# Altium integrated library Cirrus Microcontroller 32-Bit ARM.IntLib: 28 symbols (part 3 of 3)
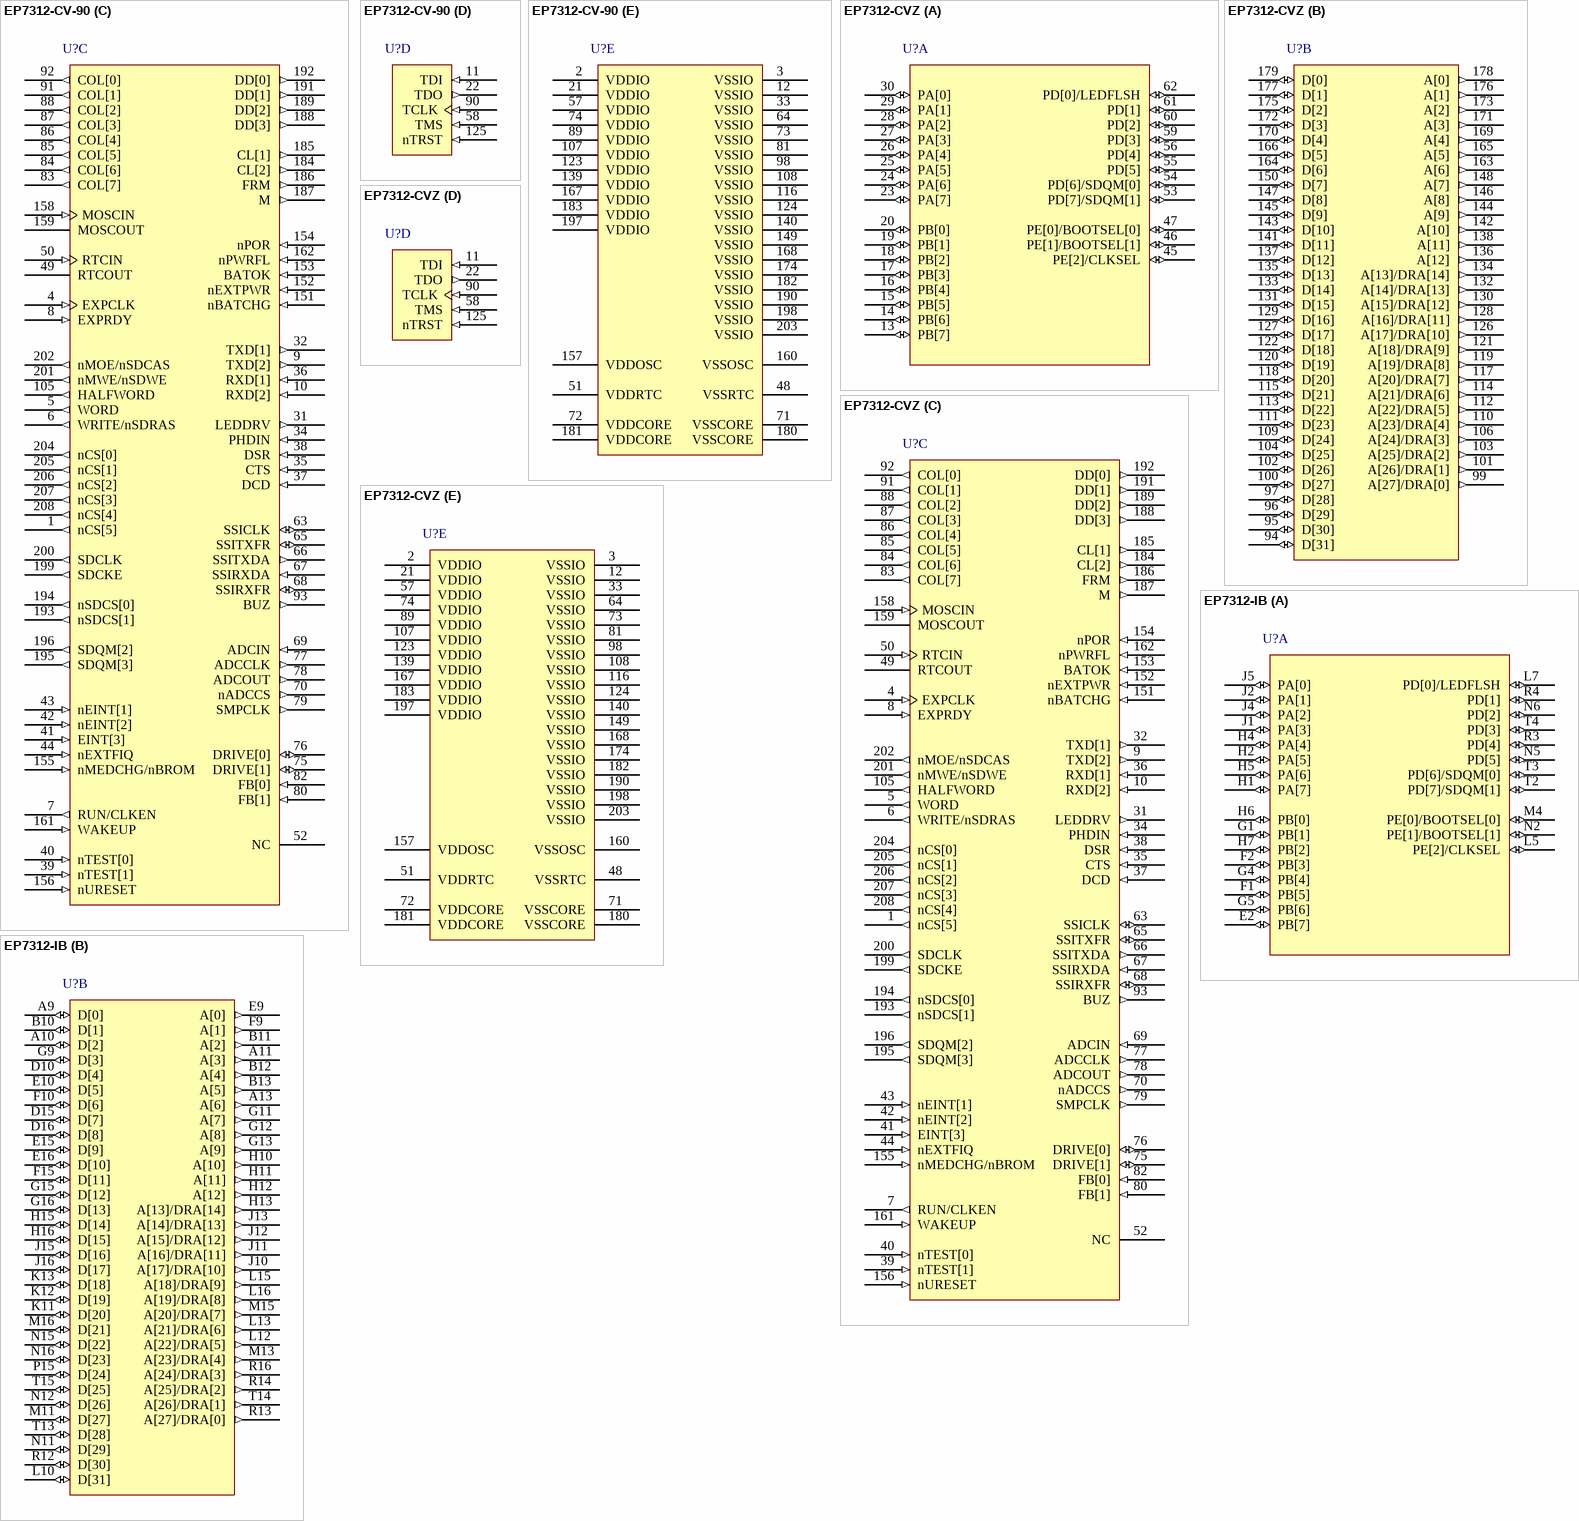
[diagram p16: symbols EP7312-CV-90 to EP7312-IB]

## EP7312-CV-90
designator U?
ARM7TDMI 32-Bit RISC CPU, 48KB SRAM, 8KB Cache, 208-pin LQFP, Commercial Grade (90 MHz); Published: 12-Dec-2006; DatasheetVersion: revF1, Aug-2005; PackageVersion: Aug-2005; PackageReference: LQFP208; Publisher: Altium Limited; PackageDescription: 208-Pin Thin Quad Flat Pack 0.5 mm Pitch; Code_JEDEC: MS-026-BJB; ComponentLink1Description: Manufacturer Link; ComponentLink1URL: http://www.cirrus.com/en/; ComponentLink2Description: Datasheet; ComponentLink2URL: http://www.cirrus.com/en/pubs/proDatasheet/EP7312_F1.pdf
footprint LQFP208_N (Thin QFP, 208-Leads, Body 28x28mm, Pitch 0.5mm, IPC Medium Density)
footprint LQFP208_L (Thin QFP, 208-Leads, Body 28x28mm, Pitch 0.5mm, IPC High Density)
footprint LQFP208_M (Thin QFP, 208-Leads, Body 28x28mm, Pitch 0.5mm, IPC Low Density)
part A pins: 13 PB[7] (io), 14 PB[6] (io), 15 PB[5] (io), 16 PB[4] (io), 17 PB[3] (io), 18 PB[2] (io), 19 PB[1] (io), 20 PB[0] (io), 23 PA[7] (io), 24 PA[6] (io), 25 PA[5] (io), 26 PA[4] (io), 27 PA[3] (io), 28 PA[2] (io), 29 PA[1] (io), 30 PA[0] (io), 45 PE[2]/CLKSEL (io), 46 PE[1]/BOOTSEL[1] (io), 47 PE[0]/BOOTSEL[0] (io), 53 PD[7]/SDQM[1] (io), 54 PD[6]/SDQM[0] (io), 55 PD[5] (io), 56 PD[4] (io), 59 PD[3] (io), 60 PD[2] (io), 61 PD[1] (io), 62 PD[0]/LEDFLSH (io)
part B pins: 94 D[31] (io), 95 D[30] (io), 96 D[29] (io), 97 D[28] (io), 99 A[27]/DRA[0] (out), 100 D[27] (io), 101 A[26]/DRA[1] (out), 102 D[26] (io), 103 A[25]/DRA[2] (out), 104 D[25] (io), 106 A[24]/DRA[3] (out), 109 D[24] (io), 110 A[23]/DRA[4] (out), 111 D[23] (io), 112 A[22]/DRA[5] (out), 113 D[22] (io), 114 A[21]/DRA[6] (out), 115 D[21] (io), 117 A[20]/DRA[7] (out), 118 D[20] (io), 119 A[19]/DRA[8] (out), 120 D[19] (io), 121 A[18]/DRA[9] (out), 122 D[18] (io), 126 A[17]/DRA[10] (out), 127 D[17] (io), 128 A[16]/DRA[11] (out), 129 D[16] (io), 130 A[15]/DRA[12] (out), 131 D[15] (io), 132 A[14]/DRA[13] (out), 133 D[14] (io), 134 A[13]/DRA[14] (out), 135 D[13] (io), 136 A[12] (out), 137 D[12] (io), 138 A[11] (out), 141 D[11] (io), 142 A[10] (out), 143 D[10] (io), 144 A[9] (out), 145 D[9] (io), 146 A[8] (out), 147 D[8] (io), 148 A[7] (out), 150 D[7] (io), 163 A[6] (out), 164 D[6] (io), 165 A[5] (out), 166 D[5] (io), 169 A[4] (out), 170 D[4] (io), 171 A[3] (out), 172 D[3] (io), 173 A[2] (out), 175 D[2] (io), 176 A[1] (out), 177 D[1] (io), 178 A[0] (out), 179 D[0] (io)
part C pins: 1 nCS[5] (out), 4 EXPCLK (in), 5 WORD (out), 6 WRITE/nSDRAS (out), 7 RUN/CLKEN (out), 8 EXPRDY (in), 9 TXD[2] (out), 10 RXD[2] (in), 31 LEDDRV (out), 32 TXD[1] (out), 34 PHDIN (in), 35 CTS (in), 36 RXD[1] (in), 37 DCD (in), 38 DSR (in), 39 nTEST[1] (in), 40 nTEST[0] (in), 41 EINT[3] (in), 42 nEINT[2] (in), 43 nEINT[1] (in), 44 nEXTFIQ (in), 49 RTCOUT, 50 RTCIN (in), 52 NC, 63 SSICLK (io), 65 SSITXFR (io), 66 SSITXDA (out), 67 SSIRXDA (in), 68 SSIRXFR (io), 69 ADCIN (in), 70 nADCCS (out), 75 DRIVE[1] (io), 76 DRIVE[0] (io), 77 ADCCLK (out), 78 ADCOUT (out), 79 SMPCLK (out), 80 FB[1] (in), 82 FB[0] (in), 83 COL[7] (out), 84 COL[6] (out), 85 COL[5] (out), 86 COL[4] (out), 87 COL[3] (out), 88 COL[2] (out), 91 COL[1] (out), 92 COL[0] (out), 93 BUZ (out), 105 HALFWORD (out), 151 nBATCHG (in), 152 nEXTPWR (in), 153 BATOK (in), 154 nPOR (in), 155 nMEDCHG/nBROM (in), 156 nURESET (in), 158 MOSCIN (in), 159 MOSCOUT, 161 WAKEUP (in), 162 nPWRFL (in), 184 CL[2] (out), 185 CL[1] (out), 186 FRM (out), 187 M (out), 188 DD[3] (out), 189 DD[2] (out), 191 DD[1] (out), 192 DD[0] (out), 193 nSDCS[1] (out), 194 nSDCS[0] (out), 195 SDQM[3] (out), 196 SDQM[2] (out), 199 SDCKE (out), 200 SDCLK (out), 201 nMWE/nSDWE (out), 202 nMOE/nSDCAS (out), 204 nCS[0] (out), 205 nCS[1] (out), 206 nCS[2] (out), 207 nCS[3] (out), 208 nCS[4] (out)
part D pins: 11 TDI (in), 22 TDO (out), 58 TMS (in), 90 TCLK (in), 125 nTRST (in)
part E pins: 2 VDDIO (power), 3 VSSIO (power), 12 VSSIO (power), 21 VDDIO (power), 33 VSSIO (power), 48 VSSRTC (power), 51 VDDRTC (power), 57 VDDIO (power), 64 VSSIO (power), 71 VSSCORE (power), 72 VDDCORE (power), 73 VSSIO (power), 74 VDDIO (power), 81 VSSIO (power), 89 VDDIO (power), 98 VSSIO (power), 107 VDDIO (power), 108 VSSIO (power), 116 VSSIO (power), 123 VDDIO (power), 124 VSSIO (power), 139 VDDIO (power), 140 VSSIO (power), 149 VSSIO (power), 157 VDDOSC (power), 160 VSSOSC (power), 167 VDDIO (power), 168 VSSIO (power), 174 VSSIO (power), 180 VSSCORE (power), 181 VDDCORE (power), 182 VSSIO (power), 183 VDDIO (power), 190 VSSIO (power), 197 VDDIO (power), 198 VSSIO (power), 203 VSSIO (power)

## EP7312-CVZ
designator U?
ARM7TDMI 32-Bit RISC CPU, 48KB SRAM, 8KB Cache, 208-pin LQFP, Commercial Grade, Pb-Free; Published: 12-Dec-2006; DatasheetVersion: revF1, Aug-2005; PackageVersion: Aug-2005; PackageReference: LQFP208; Publisher: Altium Limited; PackageDescription: 208-Pin Thin Quad Flat Pack 0.5 mm Pitch; Code_JEDEC: MS-026-BJB; ComponentLink1Description: Manufacturer Link; ComponentLink1URL: http://www.cirrus.com/en/; ComponentLink2Description: Datasheet; ComponentLink2URL: http://www.cirrus.com/en/pubs/proDatasheet/EP7312_F1.pdf
footprint LQFP208_N (Thin QFP, 208-Leads, Body 28x28mm, Pitch 0.5mm, IPC Medium Density)
footprint LQFP208_L (Thin QFP, 208-Leads, Body 28x28mm, Pitch 0.5mm, IPC High Density)
footprint LQFP208_M (Thin QFP, 208-Leads, Body 28x28mm, Pitch 0.5mm, IPC Low Density)
part A pins: 13 PB[7] (io), 14 PB[6] (io), 15 PB[5] (io), 16 PB[4] (io), 17 PB[3] (io), 18 PB[2] (io), 19 PB[1] (io), 20 PB[0] (io), 23 PA[7] (io), 24 PA[6] (io), 25 PA[5] (io), 26 PA[4] (io), 27 PA[3] (io), 28 PA[2] (io), 29 PA[1] (io), 30 PA[0] (io), 45 PE[2]/CLKSEL (io), 46 PE[1]/BOOTSEL[1] (io), 47 PE[0]/BOOTSEL[0] (io), 53 PD[7]/SDQM[1] (io), 54 PD[6]/SDQM[0] (io), 55 PD[5] (io), 56 PD[4] (io), 59 PD[3] (io), 60 PD[2] (io), 61 PD[1] (io), 62 PD[0]/LEDFLSH (io)
part B pins: 94 D[31] (io), 95 D[30] (io), 96 D[29] (io), 97 D[28] (io), 99 A[27]/DRA[0] (out), 100 D[27] (io), 101 A[26]/DRA[1] (out), 102 D[26] (io), 103 A[25]/DRA[2] (out), 104 D[25] (io), 106 A[24]/DRA[3] (out), 109 D[24] (io), 110 A[23]/DRA[4] (out), 111 D[23] (io), 112 A[22]/DRA[5] (out), 113 D[22] (io), 114 A[21]/DRA[6] (out), 115 D[21] (io), 117 A[20]/DRA[7] (out), 118 D[20] (io), 119 A[19]/DRA[8] (out), 120 D[19] (io), 121 A[18]/DRA[9] (out), 122 D[18] (io), 126 A[17]/DRA[10] (out), 127 D[17] (io), 128 A[16]/DRA[11] (out), 129 D[16] (io), 130 A[15]/DRA[12] (out), 131 D[15] (io), 132 A[14]/DRA[13] (out), 133 D[14] (io), 134 A[13]/DRA[14] (out), 135 D[13] (io), 136 A[12] (out), 137 D[12] (io), 138 A[11] (out), 141 D[11] (io), 142 A[10] (out), 143 D[10] (io), 144 A[9] (out), 145 D[9] (io), 146 A[8] (out), 147 D[8] (io), 148 A[7] (out), 150 D[7] (io), 163 A[6] (out), 164 D[6] (io), 165 A[5] (out), 166 D[5] (io), 169 A[4] (out), 170 D[4] (io), 171 A[3] (out), 172 D[3] (io), 173 A[2] (out), 175 D[2] (io), 176 A[1] (out), 177 D[1] (io), 178 A[0] (out), 179 D[0] (io)
part C pins: 1 nCS[5] (out), 4 EXPCLK (in), 5 WORD (out), 6 WRITE/nSDRAS (out), 7 RUN/CLKEN (out), 8 EXPRDY (in), 9 TXD[2] (out), 10 RXD[2] (in), 31 LEDDRV (out), 32 TXD[1] (out), 34 PHDIN (in), 35 CTS (in), 36 RXD[1] (in), 37 DCD (in), 38 DSR (in), 39 nTEST[1] (in), 40 nTEST[0] (in), 41 EINT[3] (in), 42 nEINT[2] (in), 43 nEINT[1] (in), 44 nEXTFIQ (in), 49 RTCOUT, 50 RTCIN (in), 52 NC, 63 SSICLK (io), 65 SSITXFR (io), 66 SSITXDA (out), 67 SSIRXDA (in), 68 SSIRXFR (io), 69 ADCIN (in), 70 nADCCS (out), 75 DRIVE[1] (io), 76 DRIVE[0] (io), 77 ADCCLK (out), 78 ADCOUT (out), 79 SMPCLK (out), 80 FB[1] (in), 82 FB[0] (in), 83 COL[7] (out), 84 COL[6] (out), 85 COL[5] (out), 86 COL[4] (out), 87 COL[3] (out), 88 COL[2] (out), 91 COL[1] (out), 92 COL[0] (out), 93 BUZ (out), 105 HALFWORD (out), 151 nBATCHG (in), 152 nEXTPWR (in), 153 BATOK (in), 154 nPOR (in), 155 nMEDCHG/nBROM (in), 156 nURESET (in), 158 MOSCIN (in), 159 MOSCOUT, 161 WAKEUP (in), 162 nPWRFL (in), 184 CL[2] (out), 185 CL[1] (out), 186 FRM (out), 187 M (out), 188 DD[3] (out), 189 DD[2] (out), 191 DD[1] (out), 192 DD[0] (out), 193 nSDCS[1] (out), 194 nSDCS[0] (out), 195 SDQM[3] (out), 196 SDQM[2] (out), 199 SDCKE (out), 200 SDCLK (out), 201 nMWE/nSDWE (out), 202 nMOE/nSDCAS (out), 204 nCS[0] (out), 205 nCS[1] (out), 206 nCS[2] (out), 207 nCS[3] (out), 208 nCS[4] (out)
part D pins: 11 TDI (in), 22 TDO (out), 58 TMS (in), 90 TCLK (in), 125 nTRST (in)
part E pins: 2 VDDIO (power), 3 VSSIO (power), 12 VSSIO (power), 21 VDDIO (power), 33 VSSIO (power), 48 VSSRTC (power), 51 VDDRTC (power), 57 VDDIO (power), 64 VSSIO (power), 71 VSSCORE (power), 72 VDDCORE (power), 73 VSSIO (power), 74 VDDIO (power), 81 VSSIO (power), 89 VDDIO (power), 98 VSSIO (power), 107 VDDIO (power), 108 VSSIO (power), 116 VSSIO (power), 123 VDDIO (power), 124 VSSIO (power), 139 VDDIO (power), 140 VSSIO (power), 149 VSSIO (power), 157 VDDOSC (power), 160 VSSOSC (power), 167 VDDIO (power), 168 VSSIO (power), 174 VSSIO (power), 180 VSSCORE (power), 181 VDDCORE (power), 182 VSSIO (power), 183 VDDIO (power), 190 VSSIO (power), 197 VDDIO (power), 198 VSSIO (power), 203 VSSIO (power)

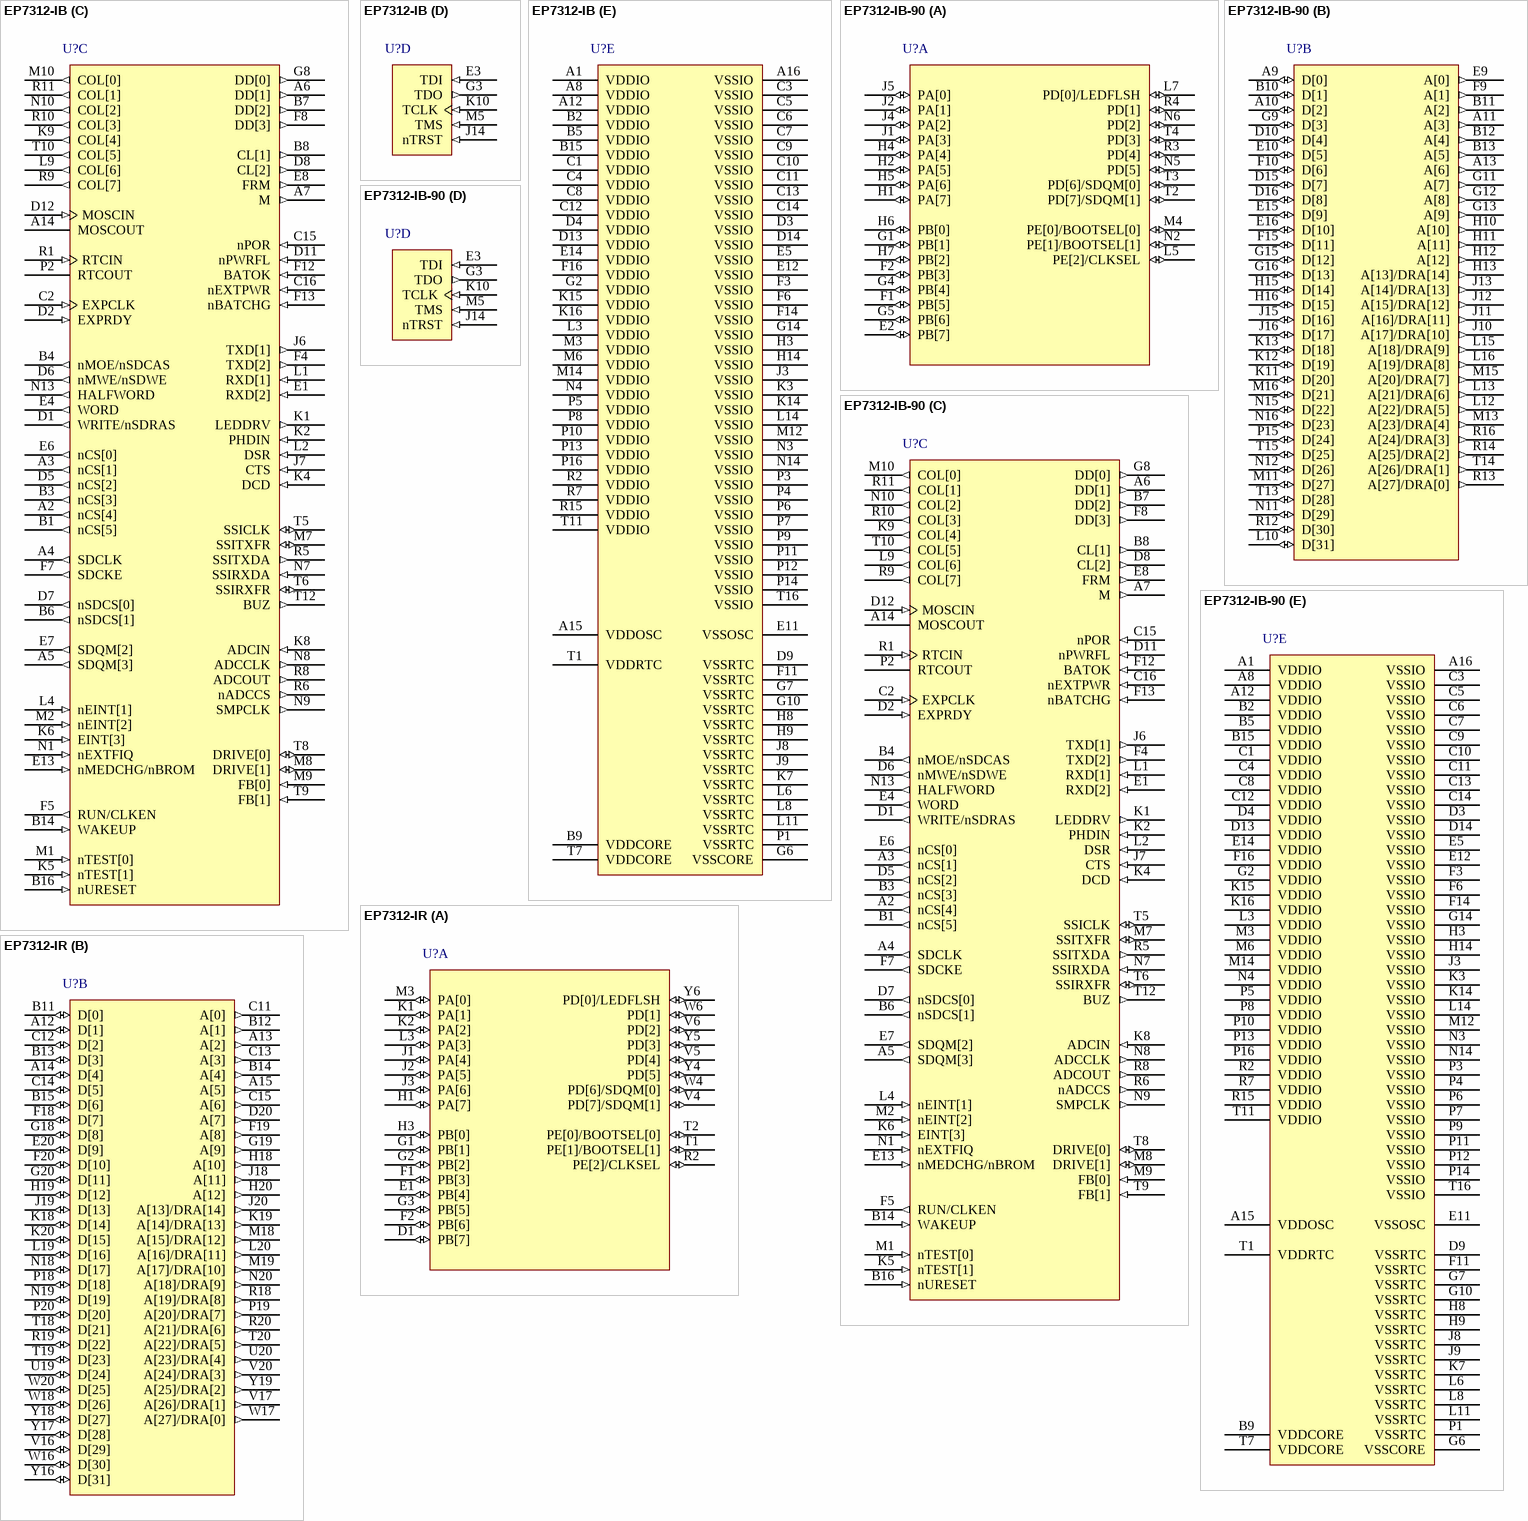
[diagram p12: symbols EP7312-IB to EP7312-IR]

## EP7312-IB
designator U?
ARM7TDMI 32-Bit RISC CPU, 48KB SRAM, 8KB Cache, 256-ball PBGA, Industrial Grade; Published: 12-Dec-2006; DatasheetVersion: revF1, Aug-2005; PackageVersion: Aug-2005; PackageReference: PBGA256; Publisher: Altium Limited; PackageDescription: 256-Ball Ball Grid Array 1 mm Pitch; Code_JEDEC: MO-151; ComponentLink1Description: Manufacturer Link; ComponentLink1URL: http://www.cirrus.com/en/; ComponentLink2Description: Datasheet; ComponentLink2URL: http://www.cirrus.com/en/pubs/proDatasheet/EP7312_F1.pdf
footprint PBGA256 (BGA, 256-Leads, Body 17x17mm, Pitch 1mm)
part A pins: E2 PB[7] (io), F1 PB[5] (io), F2 PB[3] (io), G1 PB[1] (io), G4 PB[4] (io), G5 PB[6] (io), H1 PA[7] (io), H2 PA[5] (io), H4 PA[4] (io), H5 PA[6] (io), H6 PB[0] (io), H7 PB[2] (io), J1 PA[3] (io), J2 PA[1] (io), J4 PA[2] (io), J5 PA[0] (io), L5 PE[2]/CLKSEL (io), L7 PD[0]/LEDFLSH (io), M4 PE[0]/BOOTSEL[0] (io), N2 PE[1]/BOOTSEL[1] (io), N5 PD[5] (io), N6 PD[2] (io), R3 PD[4] (io), R4 PD[1] (io), T2 PD[7]/SDQM[1] (io), T3 PD[6]/SDQM[0] (io), T4 PD[3] (io)
part B pins: A9 D[0] (io), A10 D[2] (io), A11 A[3] (out), A13 A[6] (out), B10 D[1] (io), B11 A[2] (out), B12 A[4] (out), B13 A[5] (out), D10 D[4] (io), D15 D[7] (io), D16 D[8] (io), E9 A[0] (out), E10 D[5] (io), E15 D[9] (io), E16 D[10] (io), F9 A[1] (out), F10 D[6] (io), F15 D[11] (io), G9 D[3] (io), G11 A[7] (out), G12 A[8] (out), G13 A[9] (out), G15 D[12] (io), G16 D[13] (io), H10 A[10] (out), H11 A[11] (out), H12 A[12] (out), H13 A[13]/DRA[14] (out), H15 D[14] (io), H16 D[15] (io), J10 A[17]/DRA[10] (out), J11 A[16]/DRA[11] (out), J12 A[15]/DRA[12] (out), J13 A[14]/DRA[13] (out), J15 D[16] (io), J16 D[17] (io), K11 D[20] (io), K12 D[19] (io), K13 D[18] (io), L10 D[31] (io), L12 A[22]/DRA[5] (out), L13 A[21]/DRA[6] (out), L15 A[18]/DRA[9] (out), L16 A[19]/DRA[8] (out), M11 D[27] (io), M13 A[23]/DRA[4] (out), M15 A[20]/DRA[7] (out), M16 D[21] (io), N11 D[29] (io), N12 D[26] (io), N15 D[22] (io), N16 D[23] (io), P15 D[24] (io), R12 D[30] (io), R13 A[27]/DRA[0] (out), R14 A[25]/DRA[2] (out), R16 A[24]/DRA[3] (out), T13 D[28] (io), T14 A[26]/DRA[1] (out), T15 D[25] (io)
part C pins: A2 nCS[4] (out), A3 nCS[1] (out), A4 SDCLK (out), A5 SDQM[3] (out), A6 DD[1] (out), A7 M (out), A14 MOSCOUT, B1 nCS[5] (out), B3 nCS[3] (out), B4 nMOE/nSDCAS (out), B6 nSDCS[1] (out), B7 DD[2] (out), B8 CL[1] (out), B14 WAKEUP (in), B16 nURESET (in), C2 EXPCLK (in), C15 nPOR (in), C16 nEXTPWR (in), D1 WRITE/nSDRAS (out), D2 EXPRDY (in), D5 nCS[2] (out), D6 nMWE/nSDWE (out), D7 nSDCS[0] (out), D8 CL[2] (out), D11 nPWRFL (in), D12 MOSCIN (in), E1 RXD[2] (in), E4 WORD (out), E6 nCS[0] (out), E7 SDQM[2] (out), E8 FRM (out), E13 nMEDCHG/nBROM (in), F4 TXD[2] (out), F5 RUN/CLKEN (out), F7 SDCKE (out), F8 DD[3] (out), F12 BATOK (in), F13 nBATCHG (in), G8 DD[0] (out), J6 TXD[1] (out), J7 CTS (in), K1 LEDDRV (out), K2 PHDIN (in), K4 DCD (in), K5 nTEST[1] (in), K6 EINT[3] (in), K8 ADCIN (in), K9 COL[4] (out), L1 RXD[1] (in), L2 DSR (in), L4 nEINT[1] (in), L9 COL[6] (out), M1 nTEST[0] (in), M2 nEINT[2] (in), M7 SSITXFR (io), M8 DRIVE[1] (io), M9 FB[0] (in), M10 COL[0] (out), N1 nEXTFIQ (in), N7 SSIRXDA (in), N8 ADCCLK (out), N9 SMPCLK (out), N10 COL[2] (out), N13 HALFWORD (out), P2 RTCOUT, R1 RTCIN (in), R5 SSITXDA (out), R6 nADCCS (out), R8 ADCOUT (out), R9 COL[7] (out), R10 COL[3] (out), R11 COL[1] (out), T5 SSICLK (io), T6 SSIRXFR (io), T8 DRIVE[0] (io), T9 FB[1] (in), T10 COL[5] (out), T12 BUZ (out)
part D pins: E3 TDI (in), G3 TDO (out), J14 nTRST (in), K10 TCLK (in), M5 TMS (in)
part E pins: A1 VDDIO (power), A8 VDDIO (power), A12 VDDIO (power), A15 VDDOSC (power), A16 VSSIO (power), B2 VDDIO (power), B5 VDDIO (power), B9 VDDCORE (power), B15 VDDIO (power), C1 VDDIO (power), C3 VSSIO (power), C4 VDDIO (power), C5 VSSIO (power), C6 VSSIO (power), C7 VSSIO (power), C8 VDDIO (power), C9 VSSIO (power), C10 VSSIO (power), C11 VSSIO (power), C12 VDDIO (power), C13 VSSIO (power), C14 VSSIO (power), D3 VSSIO (power), D4 VDDIO (power), D9 VSSRTC (power), D13 VDDIO (power), D14 VSSIO (power), E5 VSSIO (power), E11 VSSOSC (power), E12 VSSIO (power), E14 VDDIO (power), F3 VSSIO (power), F6 VSSIO (power), F11 VSSRTC (power), F14 VSSIO (power), F16 VDDIO (power), G2 VDDIO (power), G6 VSSCORE (power), G7 VSSRTC (power), G10 VSSRTC (power), G14 VSSIO (power), H3 VSSIO (power), H8 VSSRTC (power), H9 VSSRTC (power), H14 VSSIO (power), J3 VSSIO (power), J8 VSSRTC (power), J9 VSSRTC (power), K3 VSSIO (power), K7 VSSRTC (power), K14 VSSIO (power), K15 VDDIO (power), K16 VDDIO (power), L3 VDDIO (power), L6 VSSRTC (power), L8 VSSRTC (power), L11 VSSRTC (power), L14 VSSIO (power), M3 VDDIO (power), M6 VDDIO (power), M12 VSSIO (power), M14 VDDIO (power), N3 VSSIO (power), N4 VDDIO (power), N14 VSSIO (power), P1 VSSRTC (power), P3 VSSIO (power), P4 VSSIO (power), P5 VDDIO (power), P6 VSSIO (power), P7 VSSIO (power), P8 VDDIO (power), P9 VSSIO (power), P10 VDDIO (power), P11 VSSIO (power), P12 VSSIO (power), P13 VDDIO (power), P14 VSSIO (power), P16 VDDIO (power), R2 VDDIO (power), R7 VDDIO (power), R15 VDDIO (power), T1 VDDRTC (power), T7 VDDCORE (power), T11 VDDIO (power), T16 VSSIO (power)

## EP7312-IB-90
designator U?
ARM7TDMI 32-Bit RISC CPU, 48KB SRAM, 8KB Cache, 256-ball PBGA, Industrial Grade (90 MHz); Published: 12-Dec-2006; DatasheetVersion: revF1, Aug-2005; PackageVersion: Aug-2005; PackageReference: PBGA256; Publisher: Altium Limited; PackageDescription: 256-Ball Ball Grid Array 1 mm Pitch; Code_JEDEC: MO-151; ComponentLink1Description: Manufacturer Link; ComponentLink1URL: http://www.cirrus.com/en/; ComponentLink2Description: Datasheet; ComponentLink2URL: http://www.cirrus.com/en/pubs/proDatasheet/EP7312_F1.pdf
footprint PBGA256 (BGA, 256-Leads, Body 17x17mm, Pitch 1mm)
part A pins: E2 PB[7] (io), F1 PB[5] (io), F2 PB[3] (io), G1 PB[1] (io), G4 PB[4] (io), G5 PB[6] (io), H1 PA[7] (io), H2 PA[5] (io), H4 PA[4] (io), H5 PA[6] (io), H6 PB[0] (io), H7 PB[2] (io), J1 PA[3] (io), J2 PA[1] (io), J4 PA[2] (io), J5 PA[0] (io), L5 PE[2]/CLKSEL (io), L7 PD[0]/LEDFLSH (io), M4 PE[0]/BOOTSEL[0] (io), N2 PE[1]/BOOTSEL[1] (io), N5 PD[5] (io), N6 PD[2] (io), R3 PD[4] (io), R4 PD[1] (io), T2 PD[7]/SDQM[1] (io), T3 PD[6]/SDQM[0] (io), T4 PD[3] (io)
part B pins: A9 D[0] (io), A10 D[2] (io), A11 A[3] (out), A13 A[6] (out), B10 D[1] (io), B11 A[2] (out), B12 A[4] (out), B13 A[5] (out), D10 D[4] (io), D15 D[7] (io), D16 D[8] (io), E9 A[0] (out), E10 D[5] (io), E15 D[9] (io), E16 D[10] (io), F9 A[1] (out), F10 D[6] (io), F15 D[11] (io), G9 D[3] (io), G11 A[7] (out), G12 A[8] (out), G13 A[9] (out), G15 D[12] (io), G16 D[13] (io), H10 A[10] (out), H11 A[11] (out), H12 A[12] (out), H13 A[13]/DRA[14] (out), H15 D[14] (io), H16 D[15] (io), J10 A[17]/DRA[10] (out), J11 A[16]/DRA[11] (out), J12 A[15]/DRA[12] (out), J13 A[14]/DRA[13] (out), J15 D[16] (io), J16 D[17] (io), K11 D[20] (io), K12 D[19] (io), K13 D[18] (io), L10 D[31] (io), L12 A[22]/DRA[5] (out), L13 A[21]/DRA[6] (out), L15 A[18]/DRA[9] (out), L16 A[19]/DRA[8] (out), M11 D[27] (io), M13 A[23]/DRA[4] (out), M15 A[20]/DRA[7] (out), M16 D[21] (io), N11 D[29] (io), N12 D[26] (io), N15 D[22] (io), N16 D[23] (io), P15 D[24] (io), R12 D[30] (io), R13 A[27]/DRA[0] (out), R14 A[25]/DRA[2] (out), R16 A[24]/DRA[3] (out), T13 D[28] (io), T14 A[26]/DRA[1] (out), T15 D[25] (io)
part C pins: A2 nCS[4] (out), A3 nCS[1] (out), A4 SDCLK (out), A5 SDQM[3] (out), A6 DD[1] (out), A7 M (out), A14 MOSCOUT, B1 nCS[5] (out), B3 nCS[3] (out), B4 nMOE/nSDCAS (out), B6 nSDCS[1] (out), B7 DD[2] (out), B8 CL[1] (out), B14 WAKEUP (in), B16 nURESET (in), C2 EXPCLK (in), C15 nPOR (in), C16 nEXTPWR (in), D1 WRITE/nSDRAS (out), D2 EXPRDY (in), D5 nCS[2] (out), D6 nMWE/nSDWE (out), D7 nSDCS[0] (out), D8 CL[2] (out), D11 nPWRFL (in), D12 MOSCIN (in), E1 RXD[2] (in), E4 WORD (out), E6 nCS[0] (out), E7 SDQM[2] (out), E8 FRM (out), E13 nMEDCHG/nBROM (in), F4 TXD[2] (out), F5 RUN/CLKEN (out), F7 SDCKE (out), F8 DD[3] (out), F12 BATOK (in), F13 nBATCHG (in), G8 DD[0] (out), J6 TXD[1] (out), J7 CTS (in), K1 LEDDRV (out), K2 PHDIN (in), K4 DCD (in), K5 nTEST[1] (in), K6 EINT[3] (in), K8 ADCIN (in), K9 COL[4] (out), L1 RXD[1] (in), L2 DSR (in), L4 nEINT[1] (in), L9 COL[6] (out), M1 nTEST[0] (in), M2 nEINT[2] (in), M7 SSITXFR (io), M8 DRIVE[1] (io), M9 FB[0] (in), M10 COL[0] (out), N1 nEXTFIQ (in), N7 SSIRXDA (in), N8 ADCCLK (out), N9 SMPCLK (out), N10 COL[2] (out), N13 HALFWORD (out), P2 RTCOUT, R1 RTCIN (in), R5 SSITXDA (out), R6 nADCCS (out), R8 ADCOUT (out), R9 COL[7] (out), R10 COL[3] (out), R11 COL[1] (out), T5 SSICLK (io), T6 SSIRXFR (io), T8 DRIVE[0] (io), T9 FB[1] (in), T10 COL[5] (out), T12 BUZ (out)
part D pins: E3 TDI (in), G3 TDO (out), J14 nTRST (in), K10 TCLK (in), M5 TMS (in)
part E pins: A1 VDDIO (power), A8 VDDIO (power), A12 VDDIO (power), A15 VDDOSC (power), A16 VSSIO (power), B2 VDDIO (power), B5 VDDIO (power), B9 VDDCORE (power), B15 VDDIO (power), C1 VDDIO (power), C3 VSSIO (power), C4 VDDIO (power), C5 VSSIO (power), C6 VSSIO (power), C7 VSSIO (power), C8 VDDIO (power), C9 VSSIO (power), C10 VSSIO (power), C11 VSSIO (power), C12 VDDIO (power), C13 VSSIO (power), C14 VSSIO (power), D3 VSSIO (power), D4 VDDIO (power), D9 VSSRTC (power), D13 VDDIO (power), D14 VSSIO (power), E5 VSSIO (power), E11 VSSOSC (power), E12 VSSIO (power), E14 VDDIO (power), F3 VSSIO (power), F6 VSSIO (power), F11 VSSRTC (power), F14 VSSIO (power), F16 VDDIO (power), G2 VDDIO (power), G6 VSSCORE (power), G7 VSSRTC (power), G10 VSSRTC (power), G14 VSSIO (power), H3 VSSIO (power), H8 VSSRTC (power), H9 VSSRTC (power), H14 VSSIO (power), J3 VSSIO (power), J8 VSSRTC (power), J9 VSSRTC (power), K3 VSSIO (power), K7 VSSRTC (power), K14 VSSIO (power), K15 VDDIO (power), K16 VDDIO (power), L3 VDDIO (power), L6 VSSRTC (power), L8 VSSRTC (power), L11 VSSRTC (power), L14 VSSIO (power), M3 VDDIO (power), M6 VDDIO (power), M12 VSSIO (power), M14 VDDIO (power), N3 VSSIO (power), N4 VDDIO (power), N14 VSSIO (power), P1 VSSRTC (power), P3 VSSIO (power), P4 VSSIO (power), P5 VDDIO (power), P6 VSSIO (power), P7 VSSIO (power), P8 VDDIO (power), P9 VSSIO (power), P10 VDDIO (power), P11 VSSIO (power), P12 VSSIO (power), P13 VDDIO (power), P14 VSSIO (power), P16 VDDIO (power), R2 VDDIO (power), R7 VDDIO (power), R15 VDDIO (power), T1 VDDRTC (power), T7 VDDCORE (power), T11 VDDIO (power), T16 VSSIO (power)

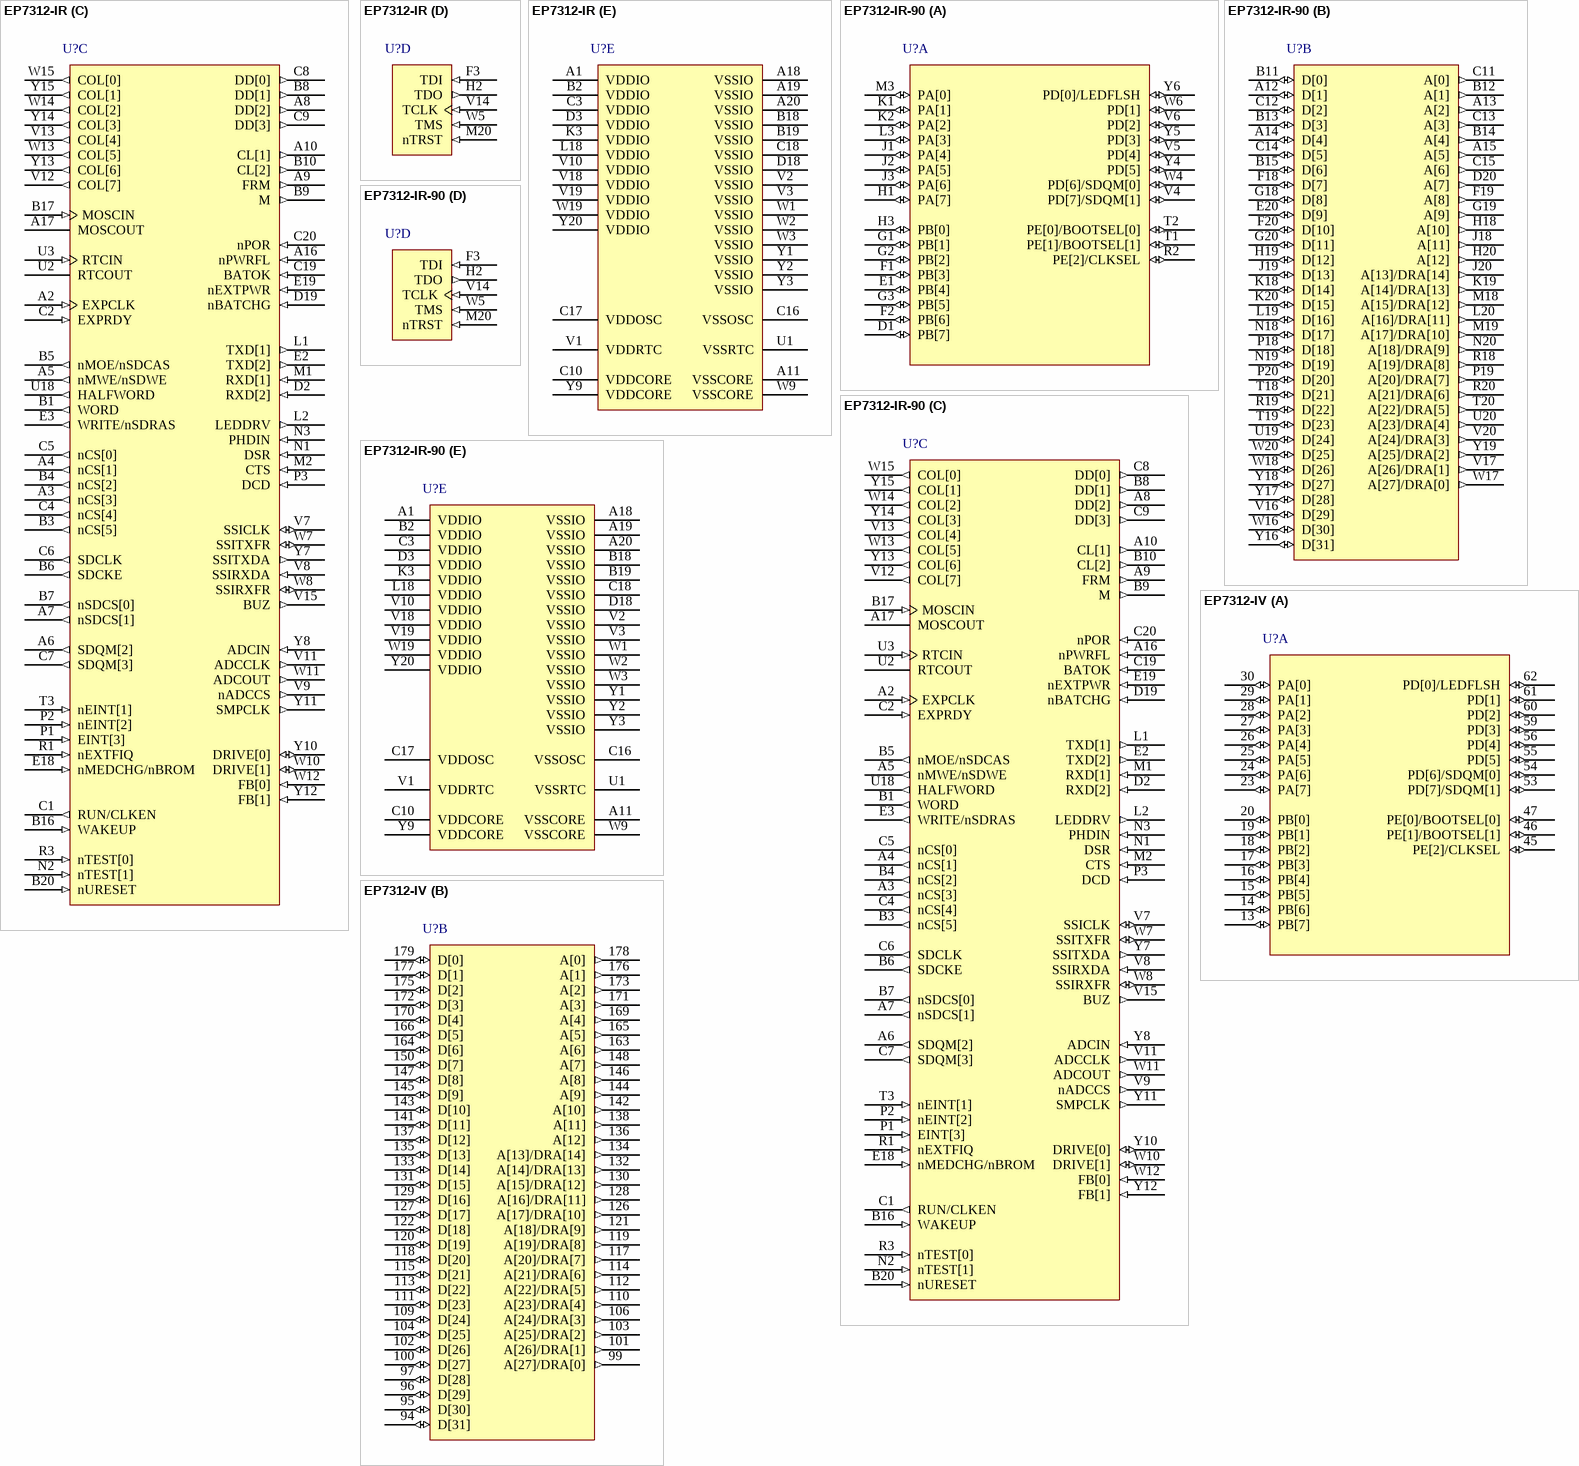
[diagram p13: symbols EP7312-IR to EP7312-IV]

## EP7312-IR
designator U?
ARM7TDMI 32-Bit RISC CPU, 48KB SRAM, 8KB Cache, 204-ball TFBGA, Industrial Grade; Published: 12-Dec-2006; DatasheetVersion: revF1, Aug-2005; PackageVersion: revF1, Aug-2005; PackageReference: TFBGA204; Publisher: Altium Limited; PackageDescription: 204-Ball Ball Grid Array 0.65 mm Pitch; ComponentLink1Description: Manufacturer Link; ComponentLink1URL: http://www.cirrus.com/en/; ComponentLink2Description: Datasheet; ComponentLink2URL: http://www.cirrus.com/en/pubs/proDatasheet/EP7312_F1.pdf
footprint TFBGA204 (BGA, 204-Leads, Body 13x13mm, Pitch 0.65mm)
part A pins: D1 PB[7] (io), E1 PB[4] (io), F1 PB[3] (io), F2 PB[6] (io), G1 PB[1] (io), G2 PB[2] (io), G3 PB[5] (io), H1 PA[7] (io), H3 PB[0] (io), J1 PA[4] (io), J2 PA[5] (io), J3 PA[6] (io), K1 PA[1] (io), K2 PA[2] (io), L3 PA[3] (io), M3 PA[0] (io), R2 PE[2]/CLKSEL (io), T1 PE[1]/BOOTSEL[1] (io), T2 PE[0]/BOOTSEL[0] (io), V4 PD[7]/SDQM[1] (io), V5 PD[4] (io), V6 PD[2] (io), W4 PD[6]/SDQM[0] (io), W6 PD[1] (io), Y4 PD[5] (io), Y5 PD[3] (io), Y6 PD[0]/LEDFLSH (io)
part B pins: A12 D[1] (io), A13 A[2] (out), A14 D[4] (io), A15 A[5] (out), B11 D[0] (io), B12 A[1] (out), B13 D[3] (io), B14 A[4] (out), B15 D[6] (io), C11 A[0] (out), C12 D[2] (io), C13 A[3] (out), C14 D[5] (io), C15 A[6] (out), D20 A[7] (out), E20 D[9] (io), F18 D[7] (io), F19 A[8] (out), F20 D[10] (io), G18 D[8] (io), G19 A[9] (out), G20 D[11] (io), H18 A[10] (out), H19 D[12] (io), H20 A[12] (out), J18 A[11] (out), J19 D[13] (io), J20 A[13]/DRA[14] (out), K18 D[14] (io), K19 A[14]/DRA[13] (out), K20 D[15] (io), L19 D[16] (io), L20 A[16]/DRA[11] (out), M18 A[15]/DRA[12] (out), M19 A[17]/DRA[10] (out), N18 D[17] (io), N19 D[19] (io), N20 A[18]/DRA[9] (out), P18 D[18] (io), P19 A[20]/DRA[7] (out), P20 D[20] (io), R18 A[19]/DRA[8] (out), R19 D[22] (io), R20 A[21]/DRA[6] (out), T18 D[21] (io), T19 D[23] (io), T20 A[22]/DRA[5] (out), U19 D[24] (io), U20 A[23]/DRA[4] (out), V16 D[29] (io), V17 A[26]/DRA[1] (out), V20 A[24]/DRA[3] (out), W16 D[30] (io), W17 A[27]/DRA[0] (out), W18 D[26] (io), W20 D[25] (io), Y16 D[31] (io), Y17 D[28] (io), Y18 D[27] (io), Y19 A[25]/DRA[2] (out)
part C pins: A2 EXPCLK (in), A3 nCS[3] (out), A4 nCS[1] (out), A5 nMWE/nSDWE (out), A6 SDQM[2] (out), A7 nSDCS[1] (out), A8 DD[2] (out), A9 FRM (out), A10 CL[1] (out), A16 nPWRFL (in), A17 MOSCOUT, B1 WORD (out), B3 nCS[5] (out), B4 nCS[2] (out), B5 nMOE/nSDCAS (out), B6 SDCKE (out), B7 nSDCS[0] (out), B8 DD[1] (out), B9 M (out), B10 CL[2] (out), B16 WAKEUP (in), B17 MOSCIN (in), B20 nURESET (in), C1 RUN/CLKEN (out), C2 EXPRDY (in), C4 nCS[4] (out), C5 nCS[0] (out), C6 SDCLK (out), C7 SDQM[3] (out), C8 DD[0] (out), C9 DD[3] (out), C19 BATOK (in), C20 nPOR (in), D2 RXD[2] (in), D19 nBATCHG (in), E2 TXD[2] (out), E3 WRITE/nSDRAS (out), E18 nMEDCHG/nBROM (in), E19 nEXTPWR (in), L1 TXD[1] (out), L2 LEDDRV (out), M1 RXD[1] (in), M2 CTS (in), N1 DSR (in), N2 nTEST[1] (in), N3 PHDIN (in), P1 EINT[3] (in), P2 nEINT[2] (in), P3 DCD (in), R1 nEXTFIQ (in), R3 nTEST[0] (in), T3 nEINT[1] (in), U2 RTCOUT, U3 RTCIN (in), U18 HALFWORD (out), V7 SSICLK (io), V8 SSIRXDA (in), V9 nADCCS (out), V11 ADCCLK (out), V12 COL[7] (out), V13 COL[4] (out), V15 BUZ (out), W7 SSITXFR (io), W8 SSIRXFR (io), W10 DRIVE[1] (io), W11 ADCOUT (out), W12 FB[0] (in), W13 COL[5] (out), W14 COL[2] (out), W15 COL[0] (out), Y7 SSITXDA (out), Y8 ADCIN (in), Y10 DRIVE[0] (io), Y11 SMPCLK (out), Y12 FB[1] (in), Y13 COL[6] (out), Y14 COL[3] (out), Y15 COL[1] (out)
part D pins: F3 TDI (in), H2 TDO (out), M20 nTRST (in), V14 TCLK (in), W5 TMS (in)
part E pins: A1 VDDIO (power), A11 VSSCORE (power), A18 VSSIO (power), A19 VSSIO (power), A20 VSSIO (power), B2 VDDIO (power), B18 VSSIO (power), B19 VSSIO (power), C3 VDDIO (power), C10 VDDCORE (power), C16 VSSOSC (power), C17 VDDOSC (power), C18 VSSIO (power), D3 VDDIO (power), D18 VSSIO (power), K3 VDDIO (power), L18 VDDIO (power), U1 VSSRTC (power), V1 VDDRTC (power), V2 VSSIO (power), V3 VSSIO (power), V10 VDDIO (power), V18 VDDIO (power), V19 VDDIO (power), W1 VSSIO (power), W2 VSSIO (power), W3 VSSIO (power), W9 VSSCORE (power), W19 VDDIO (power), Y1 VSSIO (power), Y2 VSSIO (power), Y3 VSSIO (power), Y9 VDDCORE (power), Y20 VDDIO (power)

## EP7312-IR-90
designator U?
ARM7TDMI 32-Bit RISC CPU, 48KB SRAM, 8KB Cache, 204-ball TFBGA, Industrial Grade (90 MHz); Published: 12-Dec-2006; DatasheetVersion: revF1, Aug-2005; PackageVersion: revF1, Aug-2005; PackageReference: TFBGA204; Publisher: Altium Limited; PackageDescription: 204-Ball Ball Grid Array 0.65 mm Pitch; ComponentLink1Description: Manufacturer Link; ComponentLink1URL: http://www.cirrus.com/en/; ComponentLink2Description: Datasheet; ComponentLink2URL: http://www.cirrus.com/en/pubs/proDatasheet/EP7312_F1.pdf
footprint TFBGA204 (BGA, 204-Leads, Body 13x13mm, Pitch 0.65mm)
part A pins: D1 PB[7] (io), E1 PB[4] (io), F1 PB[3] (io), F2 PB[6] (io), G1 PB[1] (io), G2 PB[2] (io), G3 PB[5] (io), H1 PA[7] (io), H3 PB[0] (io), J1 PA[4] (io), J2 PA[5] (io), J3 PA[6] (io), K1 PA[1] (io), K2 PA[2] (io), L3 PA[3] (io), M3 PA[0] (io), R2 PE[2]/CLKSEL (io), T1 PE[1]/BOOTSEL[1] (io), T2 PE[0]/BOOTSEL[0] (io), V4 PD[7]/SDQM[1] (io), V5 PD[4] (io), V6 PD[2] (io), W4 PD[6]/SDQM[0] (io), W6 PD[1] (io), Y4 PD[5] (io), Y5 PD[3] (io), Y6 PD[0]/LEDFLSH (io)
part B pins: A12 D[1] (io), A13 A[2] (out), A14 D[4] (io), A15 A[5] (out), B11 D[0] (io), B12 A[1] (out), B13 D[3] (io), B14 A[4] (out), B15 D[6] (io), C11 A[0] (out), C12 D[2] (io), C13 A[3] (out), C14 D[5] (io), C15 A[6] (out), D20 A[7] (out), E20 D[9] (io), F18 D[7] (io), F19 A[8] (out), F20 D[10] (io), G18 D[8] (io), G19 A[9] (out), G20 D[11] (io), H18 A[10] (out), H19 D[12] (io), H20 A[12] (out), J18 A[11] (out), J19 D[13] (io), J20 A[13]/DRA[14] (out), K18 D[14] (io), K19 A[14]/DRA[13] (out), K20 D[15] (io), L19 D[16] (io), L20 A[16]/DRA[11] (out), M18 A[15]/DRA[12] (out), M19 A[17]/DRA[10] (out), N18 D[17] (io), N19 D[19] (io), N20 A[18]/DRA[9] (out), P18 D[18] (io), P19 A[20]/DRA[7] (out), P20 D[20] (io), R18 A[19]/DRA[8] (out), R19 D[22] (io), R20 A[21]/DRA[6] (out), T18 D[21] (io), T19 D[23] (io), T20 A[22]/DRA[5] (out), U19 D[24] (io), U20 A[23]/DRA[4] (out), V16 D[29] (io), V17 A[26]/DRA[1] (out), V20 A[24]/DRA[3] (out), W16 D[30] (io), W17 A[27]/DRA[0] (out), W18 D[26] (io), W20 D[25] (io), Y16 D[31] (io), Y17 D[28] (io), Y18 D[27] (io), Y19 A[25]/DRA[2] (out)
part C pins: A2 EXPCLK (in), A3 nCS[3] (out), A4 nCS[1] (out), A5 nMWE/nSDWE (out), A6 SDQM[2] (out), A7 nSDCS[1] (out), A8 DD[2] (out), A9 FRM (out), A10 CL[1] (out), A16 nPWRFL (in), A17 MOSCOUT, B1 WORD (out), B3 nCS[5] (out), B4 nCS[2] (out), B5 nMOE/nSDCAS (out), B6 SDCKE (out), B7 nSDCS[0] (out), B8 DD[1] (out), B9 M (out), B10 CL[2] (out), B16 WAKEUP (in), B17 MOSCIN (in), B20 nURESET (in), C1 RUN/CLKEN (out), C2 EXPRDY (in), C4 nCS[4] (out), C5 nCS[0] (out), C6 SDCLK (out), C7 SDQM[3] (out), C8 DD[0] (out), C9 DD[3] (out), C19 BATOK (in), C20 nPOR (in), D2 RXD[2] (in), D19 nBATCHG (in), E2 TXD[2] (out), E3 WRITE/nSDRAS (out), E18 nMEDCHG/nBROM (in), E19 nEXTPWR (in), L1 TXD[1] (out), L2 LEDDRV (out), M1 RXD[1] (in), M2 CTS (in), N1 DSR (in), N2 nTEST[1] (in), N3 PHDIN (in), P1 EINT[3] (in), P2 nEINT[2] (in), P3 DCD (in), R1 nEXTFIQ (in), R3 nTEST[0] (in), T3 nEINT[1] (in), U2 RTCOUT, U3 RTCIN (in), U18 HALFWORD (out), V7 SSICLK (io), V8 SSIRXDA (in), V9 nADCCS (out), V11 ADCCLK (out), V12 COL[7] (out), V13 COL[4] (out), V15 BUZ (out), W7 SSITXFR (io), W8 SSIRXFR (io), W10 DRIVE[1] (io), W11 ADCOUT (out), W12 FB[0] (in), W13 COL[5] (out), W14 COL[2] (out), W15 COL[0] (out), Y7 SSITXDA (out), Y8 ADCIN (in), Y10 DRIVE[0] (io), Y11 SMPCLK (out), Y12 FB[1] (in), Y13 COL[6] (out), Y14 COL[3] (out), Y15 COL[1] (out)
part D pins: F3 TDI (in), H2 TDO (out), M20 nTRST (in), V14 TCLK (in), W5 TMS (in)
part E pins: A1 VDDIO (power), A11 VSSCORE (power), A18 VSSIO (power), A19 VSSIO (power), A20 VSSIO (power), B2 VDDIO (power), B18 VSSIO (power), B19 VSSIO (power), C3 VDDIO (power), C10 VDDCORE (power), C16 VSSOSC (power), C17 VDDOSC (power), C18 VSSIO (power), D3 VDDIO (power), D18 VSSIO (power), K3 VDDIO (power), L18 VDDIO (power), U1 VSSRTC (power), V1 VDDRTC (power), V2 VSSIO (power), V3 VSSIO (power), V10 VDDIO (power), V18 VDDIO (power), V19 VDDIO (power), W1 VSSIO (power), W2 VSSIO (power), W3 VSSIO (power), W9 VSSCORE (power), W19 VDDIO (power), Y1 VSSIO (power), Y2 VSSIO (power), Y3 VSSIO (power), Y9 VDDCORE (power), Y20 VDDIO (power)

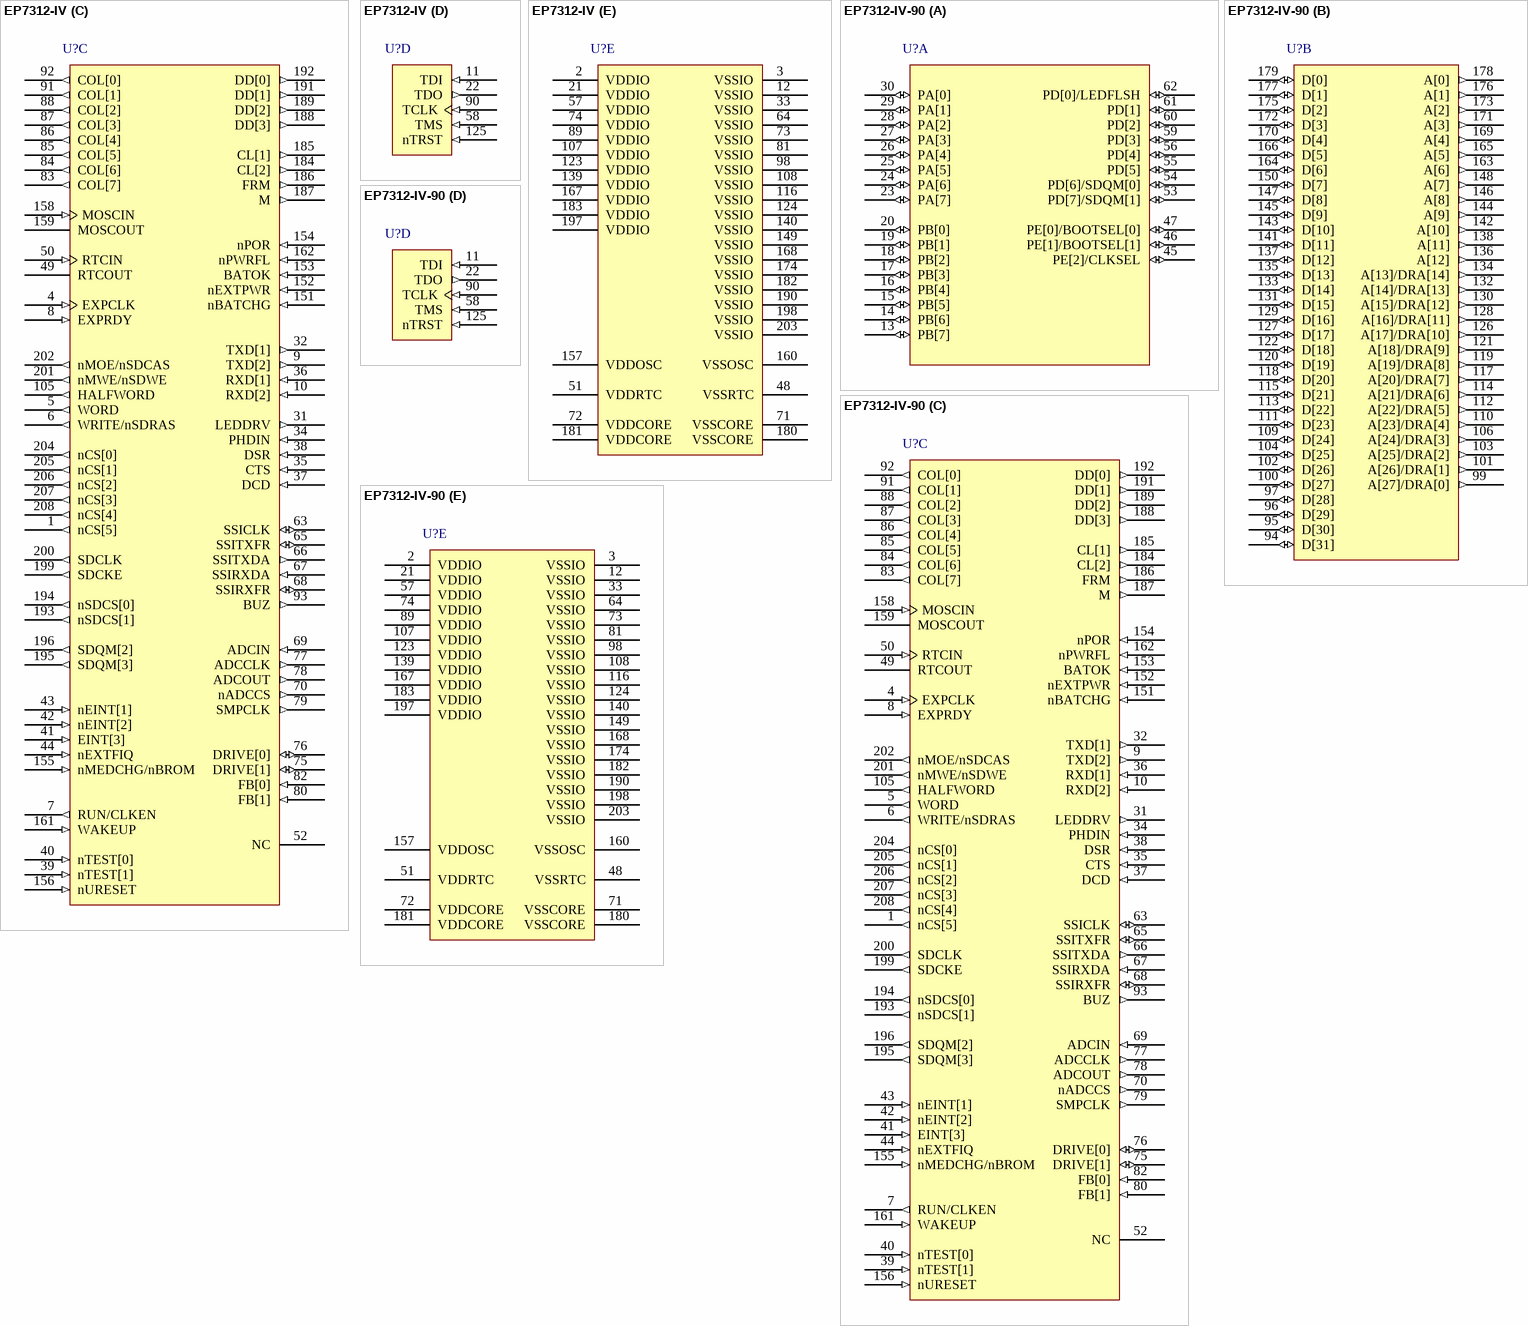
[diagram p14: symbols EP7312-IV to EP7312-IV-90]

## EP7312-IV
designator U?
ARM7TDMI 32-Bit RISC CPU, 48KB SRAM, 8KB Cache, 208-pin LQFP, Industrial Grade; Published: 12-Dec-2006; DatasheetVersion: revF1, Aug-2005; PackageVersion: Aug-2005; PackageReference: LQFP208; Publisher: Altium Limited; PackageDescription: 208-Pin Thin Quad Flat Pack 0.5 mm Pitch; Code_JEDEC: MS-026-BJB; ComponentLink1Description: Manufacturer Link; ComponentLink1URL: http://www.cirrus.com/en/; ComponentLink2Description: Datasheet; ComponentLink2URL: http://www.cirrus.com/en/pubs/proDatasheet/EP7312_F1.pdf
footprint LQFP208_N (Thin QFP, 208-Leads, Body 28x28mm, Pitch 0.5mm, IPC Medium Density)
footprint LQFP208_L (Thin QFP, 208-Leads, Body 28x28mm, Pitch 0.5mm, IPC High Density)
footprint LQFP208_M (Thin QFP, 208-Leads, Body 28x28mm, Pitch 0.5mm, IPC Low Density)
part A pins: 13 PB[7] (io), 14 PB[6] (io), 15 PB[5] (io), 16 PB[4] (io), 17 PB[3] (io), 18 PB[2] (io), 19 PB[1] (io), 20 PB[0] (io), 23 PA[7] (io), 24 PA[6] (io), 25 PA[5] (io), 26 PA[4] (io), 27 PA[3] (io), 28 PA[2] (io), 29 PA[1] (io), 30 PA[0] (io), 45 PE[2]/CLKSEL (io), 46 PE[1]/BOOTSEL[1] (io), 47 PE[0]/BOOTSEL[0] (io), 53 PD[7]/SDQM[1] (io), 54 PD[6]/SDQM[0] (io), 55 PD[5] (io), 56 PD[4] (io), 59 PD[3] (io), 60 PD[2] (io), 61 PD[1] (io), 62 PD[0]/LEDFLSH (io)
part B pins: 94 D[31] (io), 95 D[30] (io), 96 D[29] (io), 97 D[28] (io), 99 A[27]/DRA[0] (out), 100 D[27] (io), 101 A[26]/DRA[1] (out), 102 D[26] (io), 103 A[25]/DRA[2] (out), 104 D[25] (io), 106 A[24]/DRA[3] (out), 109 D[24] (io), 110 A[23]/DRA[4] (out), 111 D[23] (io), 112 A[22]/DRA[5] (out), 113 D[22] (io), 114 A[21]/DRA[6] (out), 115 D[21] (io), 117 A[20]/DRA[7] (out), 118 D[20] (io), 119 A[19]/DRA[8] (out), 120 D[19] (io), 121 A[18]/DRA[9] (out), 122 D[18] (io), 126 A[17]/DRA[10] (out), 127 D[17] (io), 128 A[16]/DRA[11] (out), 129 D[16] (io), 130 A[15]/DRA[12] (out), 131 D[15] (io), 132 A[14]/DRA[13] (out), 133 D[14] (io), 134 A[13]/DRA[14] (out), 135 D[13] (io), 136 A[12] (out), 137 D[12] (io), 138 A[11] (out), 141 D[11] (io), 142 A[10] (out), 143 D[10] (io), 144 A[9] (out), 145 D[9] (io), 146 A[8] (out), 147 D[8] (io), 148 A[7] (out), 150 D[7] (io), 163 A[6] (out), 164 D[6] (io), 165 A[5] (out), 166 D[5] (io), 169 A[4] (out), 170 D[4] (io), 171 A[3] (out), 172 D[3] (io), 173 A[2] (out), 175 D[2] (io), 176 A[1] (out), 177 D[1] (io), 178 A[0] (out), 179 D[0] (io)
part C pins: 1 nCS[5] (out), 4 EXPCLK (in), 5 WORD (out), 6 WRITE/nSDRAS (out), 7 RUN/CLKEN (out), 8 EXPRDY (in), 9 TXD[2] (out), 10 RXD[2] (in), 31 LEDDRV (out), 32 TXD[1] (out), 34 PHDIN (in), 35 CTS (in), 36 RXD[1] (in), 37 DCD (in), 38 DSR (in), 39 nTEST[1] (in), 40 nTEST[0] (in), 41 EINT[3] (in), 42 nEINT[2] (in), 43 nEINT[1] (in), 44 nEXTFIQ (in), 49 RTCOUT, 50 RTCIN (in), 52 NC, 63 SSICLK (io), 65 SSITXFR (io), 66 SSITXDA (out), 67 SSIRXDA (in), 68 SSIRXFR (io), 69 ADCIN (in), 70 nADCCS (out), 75 DRIVE[1] (io), 76 DRIVE[0] (io), 77 ADCCLK (out), 78 ADCOUT (out), 79 SMPCLK (out), 80 FB[1] (in), 82 FB[0] (in), 83 COL[7] (out), 84 COL[6] (out), 85 COL[5] (out), 86 COL[4] (out), 87 COL[3] (out), 88 COL[2] (out), 91 COL[1] (out), 92 COL[0] (out), 93 BUZ (out), 105 HALFWORD (out), 151 nBATCHG (in), 152 nEXTPWR (in), 153 BATOK (in), 154 nPOR (in), 155 nMEDCHG/nBROM (in), 156 nURESET (in), 158 MOSCIN (in), 159 MOSCOUT, 161 WAKEUP (in), 162 nPWRFL (in), 184 CL[2] (out), 185 CL[1] (out), 186 FRM (out), 187 M (out), 188 DD[3] (out), 189 DD[2] (out), 191 DD[1] (out), 192 DD[0] (out), 193 nSDCS[1] (out), 194 nSDCS[0] (out), 195 SDQM[3] (out), 196 SDQM[2] (out), 199 SDCKE (out), 200 SDCLK (out), 201 nMWE/nSDWE (out), 202 nMOE/nSDCAS (out), 204 nCS[0] (out), 205 nCS[1] (out), 206 nCS[2] (out), 207 nCS[3] (out), 208 nCS[4] (out)
part D pins: 11 TDI (in), 22 TDO (out), 58 TMS (in), 90 TCLK (in), 125 nTRST (in)
part E pins: 2 VDDIO (power), 3 VSSIO (power), 12 VSSIO (power), 21 VDDIO (power), 33 VSSIO (power), 48 VSSRTC (power), 51 VDDRTC (power), 57 VDDIO (power), 64 VSSIO (power), 71 VSSCORE (power), 72 VDDCORE (power), 73 VSSIO (power), 74 VDDIO (power), 81 VSSIO (power), 89 VDDIO (power), 98 VSSIO (power), 107 VDDIO (power), 108 VSSIO (power), 116 VSSIO (power), 123 VDDIO (power), 124 VSSIO (power), 139 VDDIO (power), 140 VSSIO (power), 149 VSSIO (power), 157 VDDOSC (power), 160 VSSOSC (power), 167 VDDIO (power), 168 VSSIO (power), 174 VSSIO (power), 180 VSSCORE (power), 181 VDDCORE (power), 182 VSSIO (power), 183 VDDIO (power), 190 VSSIO (power), 197 VDDIO (power), 198 VSSIO (power), 203 VSSIO (power)

## EP7312-IV-90
designator U?
ARM7TDMI 32-Bit RISC CPU, 48KB SRAM, 8KB Cache, 208-pin LQFP, Industrial Grade (90 MHz); Published: 12-Dec-2006; DatasheetVersion: revF1, Aug-2005; PackageVersion: Aug-2005; PackageReference: LQFP208; Publisher: Altium Limited; PackageDescription: 208-Pin Thin Quad Flat Pack 0.5 mm Pitch; Code_JEDEC: MS-026-BJB; ComponentLink1Description: Manufacturer Link; ComponentLink1URL: http://www.cirrus.com/en/; ComponentLink2Description: Datasheet; ComponentLink2URL: http://www.cirrus.com/en/pubs/proDatasheet/EP7312_F1.pdf
footprint LQFP208_N (Thin QFP, 208-Leads, Body 28x28mm, Pitch 0.5mm, IPC Medium Density)
footprint LQFP208_L (Thin QFP, 208-Leads, Body 28x28mm, Pitch 0.5mm, IPC High Density)
footprint LQFP208_M (Thin QFP, 208-Leads, Body 28x28mm, Pitch 0.5mm, IPC Low Density)
part A pins: 13 PB[7] (io), 14 PB[6] (io), 15 PB[5] (io), 16 PB[4] (io), 17 PB[3] (io), 18 PB[2] (io), 19 PB[1] (io), 20 PB[0] (io), 23 PA[7] (io), 24 PA[6] (io), 25 PA[5] (io), 26 PA[4] (io), 27 PA[3] (io), 28 PA[2] (io), 29 PA[1] (io), 30 PA[0] (io), 45 PE[2]/CLKSEL (io), 46 PE[1]/BOOTSEL[1] (io), 47 PE[0]/BOOTSEL[0] (io), 53 PD[7]/SDQM[1] (io), 54 PD[6]/SDQM[0] (io), 55 PD[5] (io), 56 PD[4] (io), 59 PD[3] (io), 60 PD[2] (io), 61 PD[1] (io), 62 PD[0]/LEDFLSH (io)
part B pins: 94 D[31] (io), 95 D[30] (io), 96 D[29] (io), 97 D[28] (io), 99 A[27]/DRA[0] (out), 100 D[27] (io), 101 A[26]/DRA[1] (out), 102 D[26] (io), 103 A[25]/DRA[2] (out), 104 D[25] (io), 106 A[24]/DRA[3] (out), 109 D[24] (io), 110 A[23]/DRA[4] (out), 111 D[23] (io), 112 A[22]/DRA[5] (out), 113 D[22] (io), 114 A[21]/DRA[6] (out), 115 D[21] (io), 117 A[20]/DRA[7] (out), 118 D[20] (io), 119 A[19]/DRA[8] (out), 120 D[19] (io), 121 A[18]/DRA[9] (out), 122 D[18] (io), 126 A[17]/DRA[10] (out), 127 D[17] (io), 128 A[16]/DRA[11] (out), 129 D[16] (io), 130 A[15]/DRA[12] (out), 131 D[15] (io), 132 A[14]/DRA[13] (out), 133 D[14] (io), 134 A[13]/DRA[14] (out), 135 D[13] (io), 136 A[12] (out), 137 D[12] (io), 138 A[11] (out), 141 D[11] (io), 142 A[10] (out), 143 D[10] (io), 144 A[9] (out), 145 D[9] (io), 146 A[8] (out), 147 D[8] (io), 148 A[7] (out), 150 D[7] (io), 163 A[6] (out), 164 D[6] (io), 165 A[5] (out), 166 D[5] (io), 169 A[4] (out), 170 D[4] (io), 171 A[3] (out), 172 D[3] (io), 173 A[2] (out), 175 D[2] (io), 176 A[1] (out), 177 D[1] (io), 178 A[0] (out), 179 D[0] (io)
part C pins: 1 nCS[5] (out), 4 EXPCLK (in), 5 WORD (out), 6 WRITE/nSDRAS (out), 7 RUN/CLKEN (out), 8 EXPRDY (in), 9 TXD[2] (out), 10 RXD[2] (in), 31 LEDDRV (out), 32 TXD[1] (out), 34 PHDIN (in), 35 CTS (in), 36 RXD[1] (in), 37 DCD (in), 38 DSR (in), 39 nTEST[1] (in), 40 nTEST[0] (in), 41 EINT[3] (in), 42 nEINT[2] (in), 43 nEINT[1] (in), 44 nEXTFIQ (in), 49 RTCOUT, 50 RTCIN (in), 52 NC, 63 SSICLK (io), 65 SSITXFR (io), 66 SSITXDA (out), 67 SSIRXDA (in), 68 SSIRXFR (io), 69 ADCIN (in), 70 nADCCS (out), 75 DRIVE[1] (io), 76 DRIVE[0] (io), 77 ADCCLK (out), 78 ADCOUT (out), 79 SMPCLK (out), 80 FB[1] (in), 82 FB[0] (in), 83 COL[7] (out), 84 COL[6] (out), 85 COL[5] (out), 86 COL[4] (out), 87 COL[3] (out), 88 COL[2] (out), 91 COL[1] (out), 92 COL[0] (out), 93 BUZ (out), 105 HALFWORD (out), 151 nBATCHG (in), 152 nEXTPWR (in), 153 BATOK (in), 154 nPOR (in), 155 nMEDCHG/nBROM (in), 156 nURESET (in), 158 MOSCIN (in), 159 MOSCOUT, 161 WAKEUP (in), 162 nPWRFL (in), 184 CL[2] (out), 185 CL[1] (out), 186 FRM (out), 187 M (out), 188 DD[3] (out), 189 DD[2] (out), 191 DD[1] (out), 192 DD[0] (out), 193 nSDCS[1] (out), 194 nSDCS[0] (out), 195 SDQM[3] (out), 196 SDQM[2] (out), 199 SDCKE (out), 200 SDCLK (out), 201 nMWE/nSDWE (out), 202 nMOE/nSDCAS (out), 204 nCS[0] (out), 205 nCS[1] (out), 206 nCS[2] (out), 207 nCS[3] (out), 208 nCS[4] (out)
part D pins: 11 TDI (in), 22 TDO (out), 58 TMS (in), 90 TCLK (in), 125 nTRST (in)
part E pins: 2 VDDIO (power), 3 VSSIO (power), 12 VSSIO (power), 21 VDDIO (power), 33 VSSIO (power), 48 VSSRTC (power), 51 VDDRTC (power), 57 VDDIO (power), 64 VSSIO (power), 71 VSSCORE (power), 72 VDDCORE (power), 73 VSSIO (power), 74 VDDIO (power), 81 VSSIO (power), 89 VDDIO (power), 98 VSSIO (power), 107 VDDIO (power), 108 VSSIO (power), 116 VSSIO (power), 123 VDDIO (power), 124 VSSIO (power), 139 VDDIO (power), 140 VSSIO (power), 149 VSSIO (power), 157 VDDOSC (power), 160 VSSOSC (power), 167 VDDIO (power), 168 VSSIO (power), 174 VSSIO (power), 180 VSSCORE (power), 181 VDDCORE (power), 182 VSSIO (power), 183 VDDIO (power), 190 VSSIO (power), 197 VDDIO (power), 198 VSSIO (power), 203 VSSIO (power)